# EAGLE library part PCA9517D,118 (library ArduMower_RaspberryPi_Power_Switch)
Level translating I2C-bus repeater
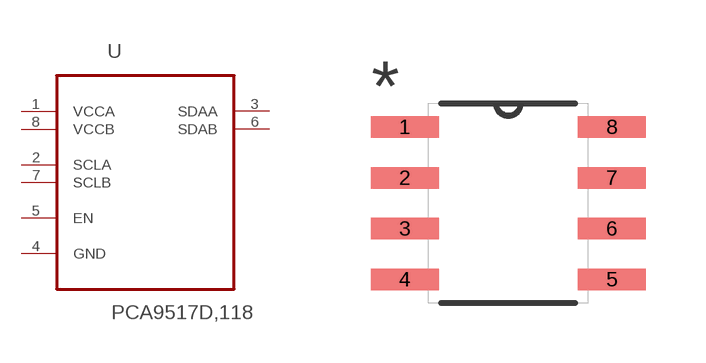
[diagram p4: symbol with the pads of SOIC127P600X175-8N; footprint SOIC127P600X175-8N]

Designator prefix U

## PCA9517D,118 (MPN: PCA9517D,118; OC_FARNELL: 1831202; OC_NEWARK: 70R6495; PACKAGE: SOIC-8; SUPPLIER: NXP)  [SOIC127P600X175-8N]
1  VCCA  pwr
2  SCLA  in
3  SDAA
4  GND  pas
5  EN  in
6  SDAB
7  SCLB  in
8  VCCB  pwr

## Footprint SOIC127P600X175-8N (pad centres in mm)
smd 1.702 x 0.533: 1 -2.591,1.905; 2 -2.591,0.635; 3 -2.591,-0.635; 4 -2.591,-1.905; 5 2.591,-1.905; 6 2.591,-0.635; 7 2.591,0.635; 8 2.591,1.905